# EAGLE library part BTS50055-1TMB (library mosfet-infineon)
BTS50055-1TMB Smart Highside High Current Power Switch, VBB 42V, R(ON) 6.0mOhm TO127P440X1000X1975-7B
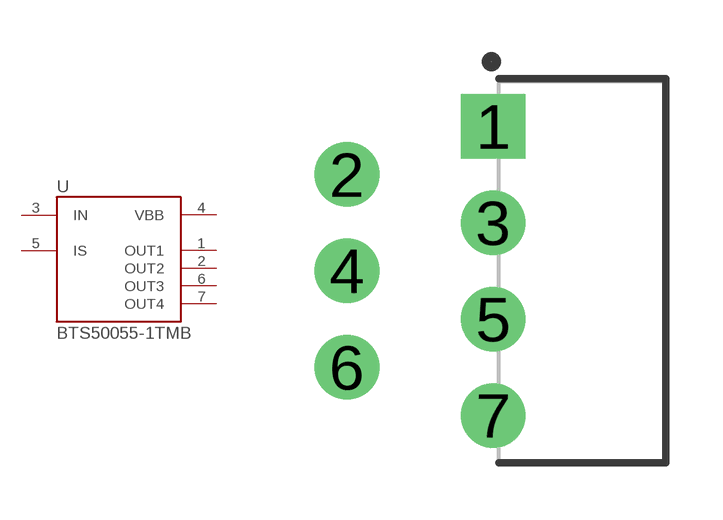
[diagram p34: symbol with the pads of TO127P440X1000X1975-7B; footprint TO127P440X1000X1975-7B]

Designator prefix U

## BTS50055-1TMB  [TO127P440X1000X1975-7B]
1  OUT1  out
2  OUT2  out
3  IN  in
4  VBB  pwr
5  IS  out
6  OUT3  out
7  OUT4  out

## Footprint TO127P440X1000X1975-7B (pad centres in mm)
Original name TO127P440X1000X1975-7B Max Component Height - 19.75mm
drill 1.1 pad 1.7 square: 1 1.9,3.81
drill 1.1 pad 1.7: 2 -1.95,2.54; 3 1.9,1.27; 4 -1.95,0; 5 1.9,-1.27; 6 -1.95,-2.54; 7 1.9,-3.81